# Altium schematic symbol library BibliotecaFonte.SchLib: 13 symbols
Pins are listed as number, name and electrical type; pins without a type are passive.

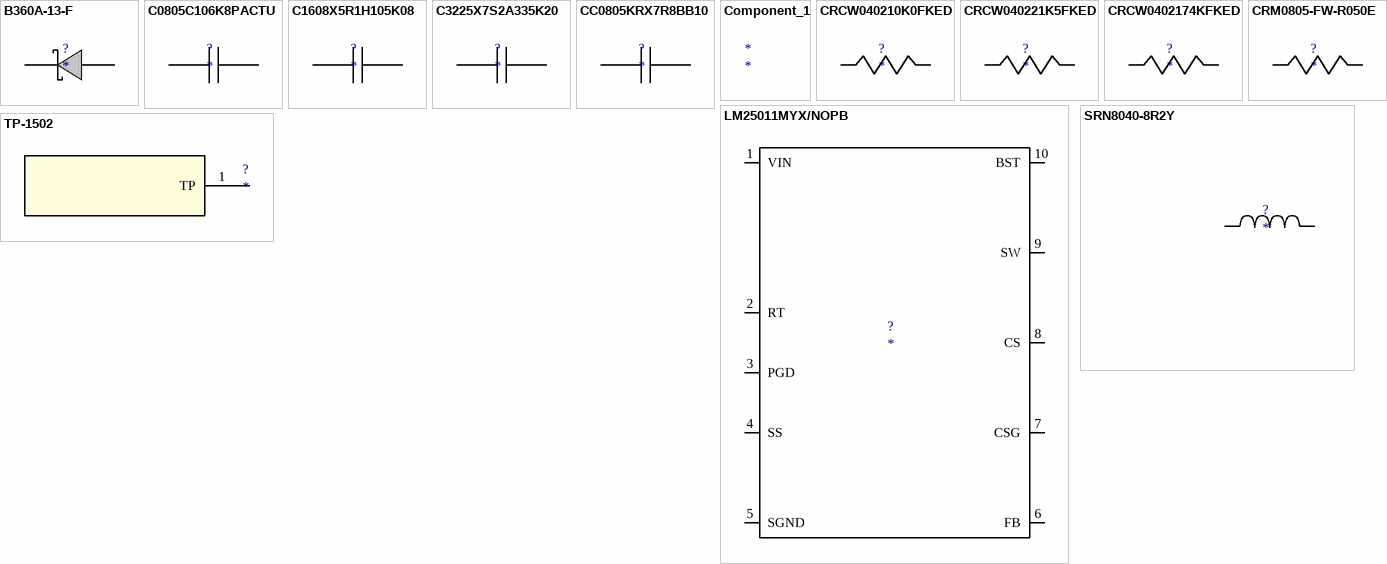
[diagram p0: symbols B360A-13-F to TP-1502]

## B360A-13-F
designator ?
Imported; Manufacturer_Part_Number: B360A-13-F; Vendor: Diodes Inc.; RefDes: RefDes; Type: Type; Value: Value
footprint SMA
pins: 1 K, 2 A

## C0805C106K8PACTU
designator ?
Imported; Manufacturer_Part_Number: C0805C106K8PACTU; Vendor: Kemet; RefDes: RefDes; TYPE: TYPE; Value: Value
footprint 0805
pins: 1, 2

## C1608X5R1H105K08
designator ?
Imported; Manufacturer_Part_Number: C1608X5R1H105K080AB; Vendor: TDK; RefDes: RefDes; TYPE: TYPE; Value: Value
footprint 0603
pins: 1, 2

## C3225X7S2A335K20
designator ?
Imported; Manufacturer_Part_Number: C3225X7S2A335K200AB; Vendor: TDK; RefDes: RefDes; TYPE: TYPE; Value: Value
footprint 1210
pins: 1, 2

## CC0805KRX7R8BB10
designator ?
Imported; Manufacturer_Part_Number: CC0805KRX7R8BB104; Vendor: Yageo America; RefDes: RefDes; TYPE: TYPE; Value: Value
footprint 0805
pins: 1, 2

## Component_1
designator *

## CRCW040210K0FKED
designator ?
Imported; Manufacturer_Part_Number: CRCW040210K0FKED; Vendor: Vishay-Dale; RefDes: RefDes; TYPE: TYPE; Value: Value
footprint 0402
pins: 1, 2

## CRCW040221K5FKED
designator ?
Imported; Manufacturer_Part_Number: CRCW040221K5FKED; Vendor: Vishay-Dale; RefDes: RefDes; TYPE: TYPE; Value: Value
footprint 0402
pins: 1, 2

## CRCW0402174KFKED
designator ?
Imported; Manufacturer_Part_Number: CRCW0402174KFKED; Vendor: Vishay-Dale; RefDes: RefDes; TYPE: TYPE; Value: Value
footprint 0402
pins: 1, 2

## CRM0805-FW-R050E
designator ?
Imported; Manufacturer_Part_Number: CRM0805-FW-R050ELF; Vendor: Bourns; RefDes: RefDes; TYPE: TYPE; Value: Value
footprint 0805
pins: 1, 2

## LM25011MYX/NOPB
designator ?
Imported; Manufacturer_Part_Number: LM25011MYX/NOPB; Vendor: Texas Instruments; RefDes: RefDes; TYPE: TYPE; Value: Value
footprint MUC10A
pins: 1 VIN, 2 RT, 3 PGD, 4 SS, 5 SGND, 6 FB, 7 CSG, 8 CS, 9 SW, 10 BST, 11 SGND

## SRN8040-8R2Y
designator ?
Imported; Manufacturer_Part_Number: SRN8040-8R2Y; Vendor: Bourns; RefDes: RefDes; TYPE: TYPE; Value: Value
footprint SRN8040
pins: 1, 2

## TP-1502
designator ?
Imported; Value: Value; Type: Type; RefDes: RefDes
footprint TP-1502
pins: 1 TP